# Altium schematic symbol library Miscellaneous.SchLib: 4 symbols
Pins are listed as number, name and electrical type; pins without a type are passive.

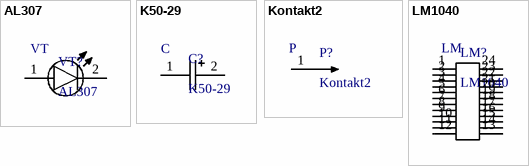
[diagram p0: symbols AL307 to LM1040]

## AL307
designator VT?
footprint AL307
pins: 1, 2
text: VT

## K50-29
designator C?
footprint K50-29
pins: 1, 2
text: C

## Kontakt2
designator P?
footprint Kontakt2
pins: 1
text: P

## LM1040
designator LM?
footprint LM1040
pins: 1, 2, 3, 4, 5, 6, 7, 8, 9, 10, 11, 12, 13, 14, 15, 16, 17, 18, 19, 20, 21, 22, 23, 24
text: LM